# EAGLE library part MCP4725A1T-E/CH (library ruark2)
12 Bit Digital to Analog Converter 1 SOT-23-6 DAC I2C
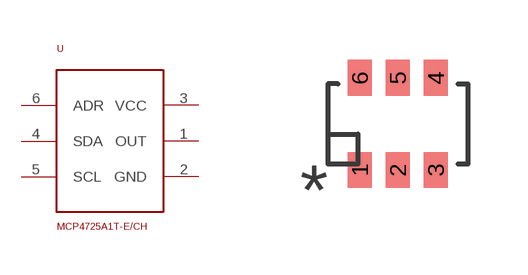
[diagram p59: symbol with the pads of SOT23-6; footprint SOT23-6]

Designator prefix U

## MCP4725A1T-E/CH (PARTNO: MCP4725A1T-E/CHCT-ND)  [SOT23-6]
1  OUT
2  GND
3  VCC
4  SDA
5  SCL
6  ADR

## Footprint SOT23-6 (pad centres in mm)
smd 0.6 x 0.9: 1 -0.95,-1.15; 2 0,-1.15; 3 0.95,-1.15; 4 0.95,1.15; 5 0,1.15; 6 -0.95,1.15